# Altium integrated library SMAZ24-13-F_ZENER_DIODE.IntLib: 1 symbol
Pins are listed as number, name and electrical type; pins without a type are passive.

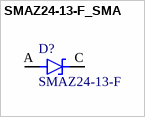
[diagram p0: symbol SMAZ24-13-F_SMA]

## SMAZ24-13-F_SMA
designator D?, comment SMAZ24-13-F
Zener diode 24V 1W 5% SMA; MP: SMAZ24; Value: *; Availability: Warning; Price: None; Supplier 1: RSComponents; Supplier Part Number 1: 7515039P
footprint DIODE SMA (S1GTR)
pins: A, C K